# Altium footprint library CenaChip.PcbLib: 2 footprints
Each footprint in its own frame and in the unit in brackets; x right, y up, seen from the top. Pads: shape width x height; smd on the part's side, far side on the other; paste and mask are expansions set on the pad; w line width, h text height; cw(c..) or ccw(c..) is an arc to the next point about the centre after c.
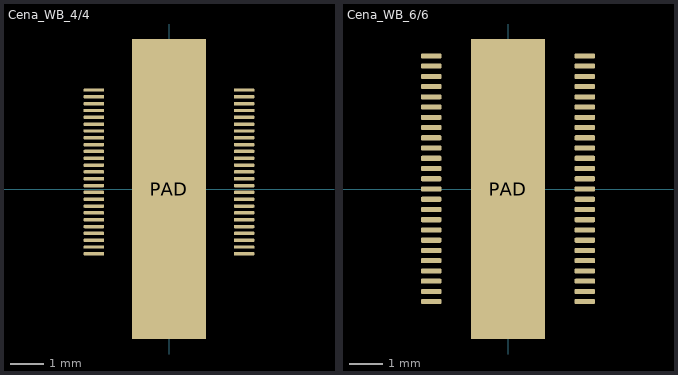
[diagram p0: the footprints below, top view; thin cyan lines are the x and y axes]

## Cena_WB_4/4 [mil]
pads (51):
  rrect50% 24x4 smd paste-100: 1(-88,116) 2(-88,108) 3(-88,100) 4(-88,92) 5(-88,84) 6(-88,76) 7(-88,68) 8(-88,60) 9(-88,52) 10(-88,44) 11(-88,36) 12(-88,28) 13(-88,20) 14(-88,12) 15(-88,4) 16(-88,-4) 17(-88,-12) 18(-88,-20) 19(-88,-28) 20(-88,-36) 21(-88,-44) 22(-88,-52) 23(-88,-60) 24(-88,-68) 25(-88,-76) 26(88,116) 27(88,108) 28(88,100) 29(88,92) 30(88,84) 31(88,76) 32(88,68) 33(88,60) 34(88,52) 35(88,44) 36(88,36) 37(88,28) 38(88,20) 39(88,12) 40(88,4) 41(88,-4) 42(88,-12) 43(88,-20) 44(88,-28) 45(88,-36) 46(88,-44) 47(88,-52) 48(88,-60) 49(88,-68) 50(88,-76)
  rect 86.61x351.57 smd paste-10000: PAD(0,0)

## Cena_WB_6/6 [mil]
pads (51):
  rrect50% 24x6 smd paste-100: 1(-90,156) 2(-90,144) 3(-90,132) 4(-90,120) 5(-90,108) 6(-90,96) 7(-90,84) 8(-90,72) 9(-90,60) 10(-90,48) 11(-90,36) 12(-90,24) 13(-90,12) 14(-90,0) 15(-90,-12) 16(-90,-24) 17(-90,-36) 18(-90,-48) 19(-90,-60) 20(-90,-72) 21(-90,-84) 22(-90,-96) 23(-90,-108) 24(-90,-120) 25(-90,-132) 26(90,156) 27(90,144) 28(90,132) 29(90,120) 30(90,108) 31(90,96) 32(90,84) 33(90,72) 34(90,60) 35(90,48) 36(90,36) 37(90,24) 38(90,12) 39(90,0) 40(90,-12) 41(90,-24) 42(90,-36) 43(90,-48) 44(90,-60) 45(90,-72) 46(90,-84) 47(90,-96) 48(90,-108) 49(90,-120) 50(90,-132)
  rect 86.61x351.57 smd paste-10000: PAD(0,0)